# EAGLE library part BNO055 (library perspection)
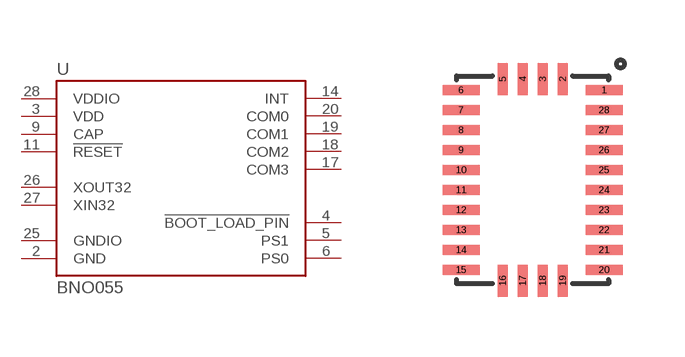
[diagram p13: symbol with the pads of LGA-28; footprint LGA-28]

Designator prefix U

## BNO055 (DIST_NAME: Mouser; DIST_PN: 262-BNO055; MFG_NAME: Bosch Sensortec; MFG_PN: BNO055)  [LGA-28]
2  GND
3  VDD
4  !BOOT_LOAD_PIN
5  PS1
6  PS0
9  CAP
11  !RESET
14  INT
17  COM3
18  COM2
19  COM1
20  COM0
25  GNDIO
26  XOUT32
27  XIN32
28  VDDIO

## Footprint LGA-28 (pad centres in mm)
smd 0.925 x 0.25: 1 1.788,2.25; 6 -1.788,2.25; 7 -1.788,1.75; 8 -1.788,1.25; 9 -1.788,0.75; 10 -1.788,0.25; 11 -1.788,-0.25; 12 -1.788,-0.75; 13 -1.788,-1.25; 14 -1.788,-1.75; 15 -1.788,-2.25; 20 1.788,-2.25; 21 1.788,-1.75; 22 1.788,-1.25; 23 1.788,-0.75; 24 1.788,-0.25; 25 1.788,0.25; 26 1.788,0.75; 27 1.788,1.25; 28 1.788,1.75
smd 0.25 x 0.8: 2 0.75,2.525; 3 0.25,2.525; 4 -0.25,2.525; 5 -0.75,2.525; 16 -0.75,-2.525; 17 -0.25,-2.525; 18 0.25,-2.525; 19 0.75,-2.525